# Altium schematic symbol library Weerstation.SCHLIB: 24 symbols
Pins are listed as number, name and electrical type; pins without a type are passive.

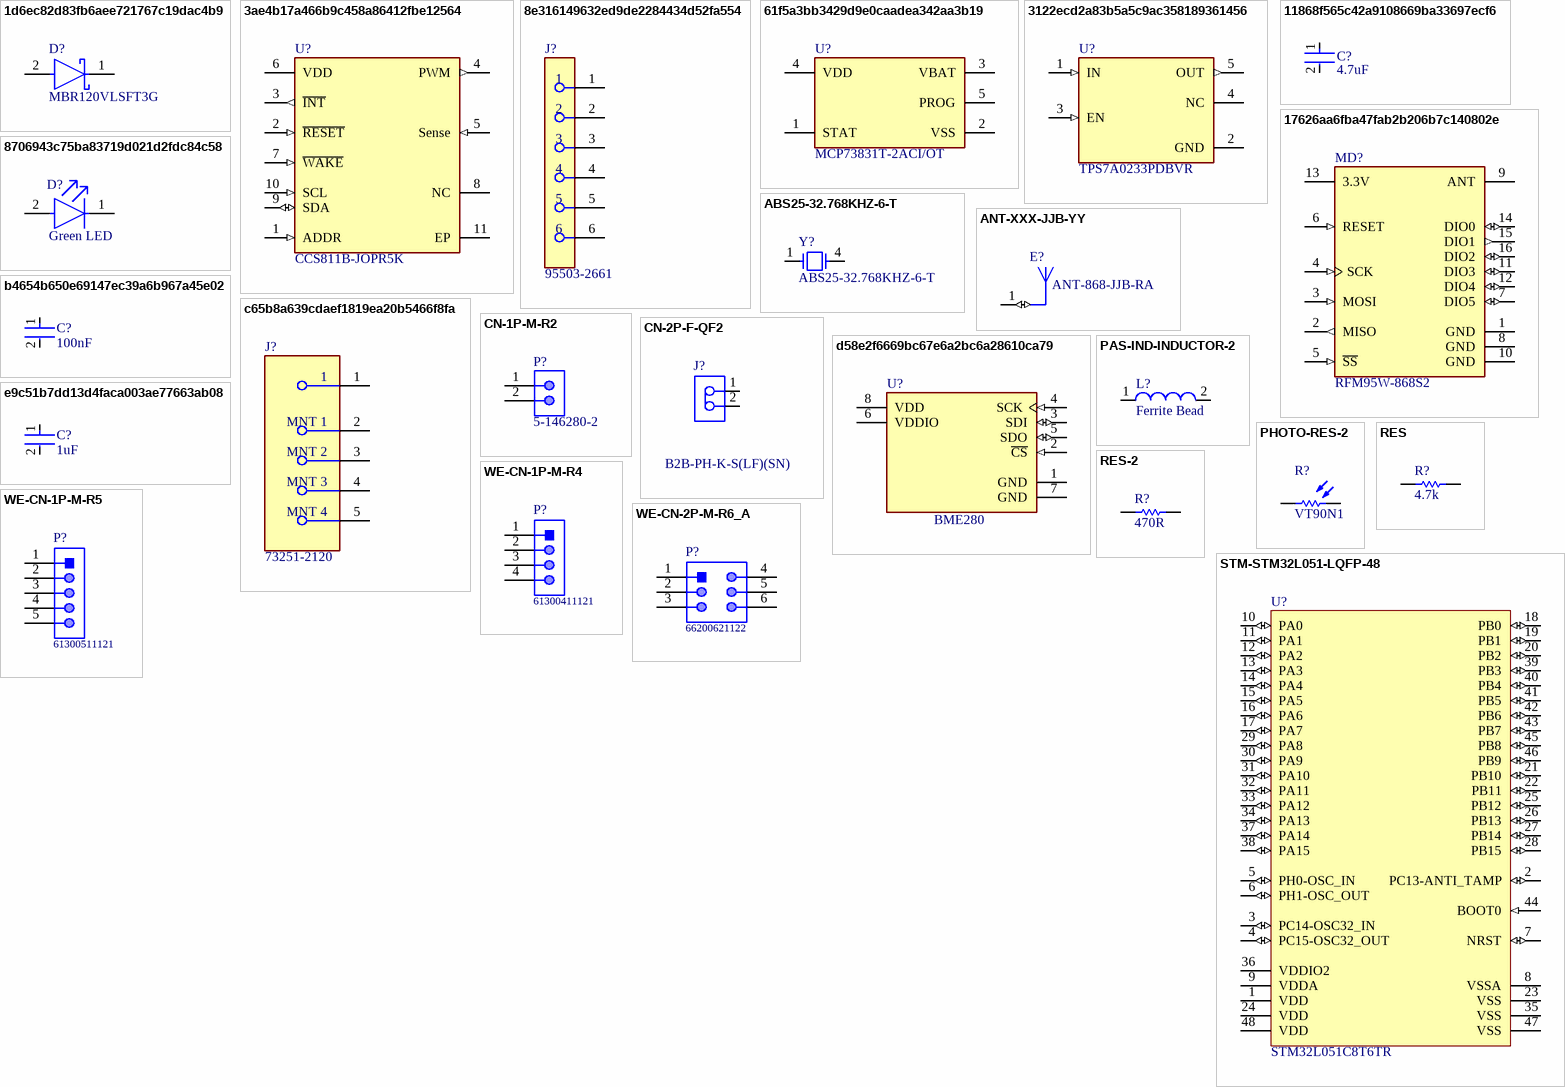
[diagram p0: symbols 1d6ec82d83fb6aee721767c19dac4b9 to WE-CN-2P-M-R6_A]

## 1d6ec82d83fb6aee721767c19dac4b9
designator D?, comment MBR120VLSFT3G
DIODE SCHOTTKY 20V 1A SOD123FL; Peak Reverse Current: 600uA; Peak Non-Repetitive Surge Current: 45A; Forward Voltage: 340mV; Polarity: Standard; Element Configuration: Single; Max Repetitive Reverse Voltage (Vrrm): 20V; Max Operating Temperature: 125°C; Forward Current: 1A; Average Rectified Current: 1A; Package Quantity: 10000; Current Rating: 1A; Max Reverse Leakage Current: 600uA; Max Surge Current: 45A; Radiation Hardening: No; Min Operating Temperature: -65°C; Max Reverse Voltage (DC): 20V; Number of Pins: 2; Output Current: 1A; Halogen Free: Halogen Free; Packaging: Tape and Reel; Max Forward Surge Current (Ifsm): 45A; REACH SVHC: No SVHC; Voltage Rating (DC): 20V; Lead Free: Lead Free
footprint FP-498-MFG
pins: 1 C, 2 A

## 3ae4b17a466b9c458a86412fbe12564
designator U?, comment CCS811B-JOPR5K
CCS811B-JOPR5K LGA10 LF T&R; Operating Supply Current: 26mA; Min Operating Temperature: -5°C; Max Operating Temperature: 50°C
footprint FP-CCS811B-JOPR5K-MFG
pins: 1 ADDR (in), 2 ~{RESET} (in), 3 ~{INT} (out), 4 PWM (out), 5 Sense (in), 6 VDD (power), 7 ~{WAKE} (in), 8 NC, 9 SDA (io), 10 SCL (in), 11 EP (power)

## 8e316149632ed9de2284434d52fa554
designator J?, comment 95503-2661
CONN MOD JACK 6P6C VERT UNSHLD; Pitch: 2.54mm; Number of Positions Loaded: 6; Voltage Rating (DC): 125V; Gender: Female; Number of Ports: 1; Shielding: Unshielded; Current Rating: 1.5A; Housing Color: Black; Series: 95503; Color: Black; Packaging: Tray; Contact Material: Copper Alloy; Number of Positions: 6; Mount: Through Hole; Width: 13.21mm; Contact Plating: Gold; Halogen Free: Low Halogen; Number of Contacts: 6; Depth: 15.08mm; Length: 13.21mm; Voltage Rating: 125V; Number of Ways: 6; Max Voltage Rating (DC): 125V; Package Quantity: 3094; Orientation: Straight; Max Operating Temperature: 80°C; Termination: Through Hole; Housing Material: Thermoplastic; Min Operating Temperature: -40°C
footprint FP-95503-2661-MFG
pins: 1, 2, 3, 4, 5, 6

## 61f5a3bb3429d9e0caadea342aa3b19
designator U?, comment MCP73831T-2ACI/OT
IC CONTROLLR LI-ION 4.2V SOT23-5; Max Power Dissipation: 1.54W; Output Current: 500mA; Max Output Voltage: 4.5V; Number of Outputs: 1; Min Output Voltage: 4.168V; Min Supply Voltage: 3.75V; Max Input Voltage: 6V; Voltage Rating: 4.534V; Drain to Source Resistance: 350mR; Max Operating Temperature: 85°C; Length: 0.122inch; Number of Pins: 5; REACH SVHC: No SVHC; Radiation Hardening: No; Min Operating Temperature: -40°C; Weight: 0.00709oz; Contact Plating: Tin; Termination: SMD/SMT; Case/Package: SOT-23; Mount: Surface Mount; Width: 0.071inch; Packaging: Tape and Reel; Number of Cells: 1; Max Charge Current: 500mA; Height: 0.051inch; Number of Channels: 1; Output Voltage: 4.2V; Max Supply Voltage: 6V; Lead Free: Lead Free
footprint FP-C04-091-OT-IPC_B
footprint FP-C04-091-OT-IPC_C
footprint FP-C04-091-OT-IPC_A
footprint FP-C04-091-OT-MFG
pins: 1 STAT, 2 VSS (power), 3 VBAT (power), 4 VDD (power), 5 PROG

## 3122ecd2a83b5a5c9ac358189361456
designator U?, comment TPS7A0233PDBVR
IC REG LINEAR 3.3V 200MA SOT23-5; RoHS Compliant: Yes
footprint FP-DBV0005A-IPC_B
footprint FP-DBV0005A-MFG
footprint FP-DBV0005A-IPC_C
footprint FP-DBV0005A-IPC_A
pins: 1 IN (in), 2 GND (power), 3 EN (in), 4 NC, 5 OUT (out)

## 11868f565c42a9108669ba33697ecf6
designator C?, comment 4.7uF
CAP CER 4.7UF 6.3V X5R 0603; Manufacturer: Kemet; Manufacturer Part Number: C0603C475K9PACTU; Temperature Coefficient: 15%; Tolerance: 10%; Material: Ceramic; Device Class L3: Ceramic Capacitors; RoHS: TRUE; Value: 4.7uF; Lead Free: Yes; ComponentLink2Description: Datasheet; Mouser Description: Multilayer Ceramic Capacitors MLCC - SMD/SMT 6.3volts 4.7uF X5R 10%; Package: C0603-CG; Digikey Description: CAP CER 4.7UF 6.3V X5R 0603; ComponentLink2URL: https://content.kemet.com/datasheets/KEM_C1006_X5R_SMD.pdf; Category: Cap; Temperature Range Low: -55°C; Capacitance: 4.7uF; Temperature: -55°C to +85°C; Octopart: https://octopart.com/c0603c475k9pactu-kemet-104242; Ipc Land Pattern Name: CAPC16080X80; Voltage Rating: 6.3V; Temperature Range High: +85°C; Height: 0.9mm; Temperature Characteristic: X5R; Device Class L1: Passive Components; Automotive: No; Device Class L2: Capacitors
footprint FP-C0603-CG-MFG
footprint FP-C0603-CG-IPC_C
footprint FP-C0603-CG-IPC_B
footprint FP-C0603-CG-IPC_A
pins: 1, 2

## 17626aa6fba47fab2b206b7c140802e
designator MD?, comment RFM95W-868S2
RX TXRX MODULE ISM < 1GHZ SMD; Data Rate: 300Kbps; Frequency: 868MHz; Sensitivity: -123dBm; Interface: SPI; Current - Transmitting: 120mA; Current - Receiving: 12.1mA; Max Operating Temperature: 70°C; Case/Package: SMD/SMT; Packaging: Bulk; Mount: Surface Mount; Min Operating Temperature: -20°C
footprint FP-RFM95W-868S2-MFG
pins: 1 GND (power), 2 MISO (out), 3 MOSI (in), 4 SCK (in), 5 ~{SS} (in), 6 RESET (in), 7 DIO5 (io), 8 GND (power), 9 ANT, 10 GND (power), 11 DIO3 (io), 12 DIO4 (io), 13 3.3V (power), 14 DIO0 (io), 15 DIO1 (out), 16 DIO2 (io)

## 8706943c75ba83719d021d2fdc84c58
designator D?, comment Green LED
LED GREEN CLEAR CHIP SMD; Dominant Wavelength: 569nm; Reverse Voltage: 5V; Lens Color: Colorless; Viewing Angle: 130°; Voltage: 2V; Forward Current: 30mA; Power Dissipation: 100mW; Luminous Intensity: 6mcd; Number of LEDs: 1; Forward Voltage: 2.1V; Wavelength: 565nm; Test Current: 10mA; Min Operating Temperature: -55°C; Lens Style: Clear; Mount: Surface Mount; Width: 0.8mm; Packaging: Tape and Reel; Lens Transparency: Clear; Case Code (Metric): 1608; Depth: 0.8mm; Case Code (Imperial): 0603; Case/Package: 0603; Number of Pins: 2; Max Operating Temperature: 85°C; Lead Free: Lead Free; Number of Elements: 1; Length: 1.6mm; Height: 0.8mm; Package Quantity: 1; Power Rating: 100mW; Radiation Hardening: No; Illumination Color: Green; Color: Green
footprint FP-LTST-C190GKT-MFG
pins: 1 C, 2 A

## ABS25-32.768KHZ-6-T
designator Y?
32.768kHz Â±20ppm Crystal 6pF 50 kOhms 4-SOJ, 5.50mm pitch; MF: Abracon; Price: None; SnapEDA_Link: https://www.snapeda.com/parts/ABS25-32.768KHZ-6-T/Abracon%20LLC/view-part/313683/?ref=snap; MP: ABS25-32.768KHZ-6-T; Availability: Unavailable; Value: *; Package: 4-4 Abracon
footprint XTAL_ABS25-32.768KHZ-6-T
pins: 1, 4

## ANT-XXX-JJB-YY
designator E?, comment ANT-868-JJB-RA
Embeddable 1/4-wave Monopole Antenna, JJB Series, 868MHz, 7mm Dia. Package, Right-Angle; Note1: No ground planes or traces under the antenna; DatasheetVersion: Jul-2008; PackageReference: ANT-XXX-JJB-RA; PackageDescription: Antenna, Monopole, JJB Series, Thru-Hole, Right-Angle, 7.0 x 9.0 mm (Dia.xH typ); PackageVersion: Jul-2008
footprint ANT-XXX-JJB-RA (Antenna, 1-Lead, Thru-Hole, Right-Angle, Body 7.0x9.0mm (Dia.xH typ))
pins: 1 FEED (io)

## b4654b650e69147ec39a6b967a45e02
designator C?, comment 100nF
Cap Ceramic 100nF 50V X7R 10% Pad SMD 0603 +125°C Automotive T/R; Weight: 7.1E-05oz; Composition: Ceramic; Max Operating Temperature: 125°C; Termination: SMD/SMT; Dielectric: X7R; Length: 1.6mm; Package Quantity: 1; REACH SVHC: No SVHC; Lead Free: Lead Free; Case Code (Metric): 1608; Min Operating Temperature: -55°C; Packaging: Tape and Reel; Tolerance: 10%; Voltage Rating: 50V; Case Code (Imperial): 0603; Capacitance: 100nF; Case/Package: 0603; Voltage Rating (DC): 50V; Depth: 0.8mm; Radiation Hardening: No; Ratings: AEC-Q200; Mount: Surface Mount; Voltage: 50V; Thickness: 0.035inch; Width: 0.8mm; Height: 0.8mm
footprint FP-CGA3E-0_3-0_1-IPC_A
footprint FP-CGA3E-0_3-0_1-IPC_C
footprint FP-CGA3E-0_3-0_1-IPC_B
footprint FP-CGA3E-0_3-0_1-MFG
pins: 1, 2

## c65b8a639cdaef1819ea20b5466f8fa
designator J?, comment 73251-2120
CONN SMA JACK STR 50OHM EDGE MNT; Gender: Female; Plating: Gold; Impedance: 50R; Body Material: Brass; Polarity: Standard; Mount: Edge; Contact Plating: Gold; Orientation: Straight; Lead Free: Lead Free; Contact Material: Copper; Termination: Solder; RoHS Compliant: Yes; Body Plating: Gold; Operating Frequency: N/A; Connector Type: SMA; Case/Package: SMA; Series: 73251; Halogen Free: Low Halogen; Radiation Hardening: No; Packaging: Bulk; Package Quantity: 1600
footprint FP-73251-2120-MFG
pins: 1, 2 MNT 1, 3 MNT 2, 4 MNT 3, 5 MNT 4

## CN-1P-M-R2
designator P?, comment 5-146280-2
Male Header, Pitch 2.54 mm, 1 x 2 Position, Height 8.21 mm, Tail Length 3.05 mm, -65 to 105 degC, RoHS, Bulk; Manufacturer: TE Connectivity; Mating Connector Lock: No(Without); Number of Positions: 2; Pitch: 2.54mm; PCB Mounting Orientation: Vertical; Keyed: No; Case\/Package: 100; Mating Post Length: 0.23inch; High Temperature Housing: Yes; Max Current Rating: 5A; PCB Thickness: 0.063inch; PCB Mount Retention: Without; Approvals: CSA; Current Rating: 3A; Radiation Hardening: No; Length: 4.67mm; Contact Mating Length: 0.23inch; Connector Type: Header; Number of Rows: 1; Termination Post Length: 0.12inch; Board Standoff: No(Without); Max Operating Temperature: 105degC; Contact Shape: Square; Selectively Loaded: No(Without); Gasket: No(Without); Number of Contacts: 2; Contact Gender: Male; Mating Alignment: No(Without); Manufacturer URL: http://www.te.com/; Datasheet URL: http://www.te.com/commerce/DocumentDelivery/DDEController?Action=showdoc&DocId=Customer+Drawing%7F146280%7FH1%7Fpdf%7FEnglish%7FENG_CD_146280_H1.pdf%7F5-146280-2; Mount: ThroughHole; Orientation: Straight; Packaging: Carton; Package Reference: 5-146280-2; Package Quantity: 500; Stabilizers: No(Without); Row Spacing: 2.54mm; Contact Material: CopperAlloy; Panel Mount Retention: No(Without); Datasheet Version: Rev. H1, 08/2016; Housing Colour: Black; Colour: Black; Package Description: Male Header, Pitch 2.54 mm, 1 x 2 Position, Height 8.21 mm, Tail Length 3.05 mm; Contact Plating: Matte; Housing Material: Polymer; Contact Protection: No(Without); Min Operating Temperature: -65degC; Mounting Technology: ThroughHole; Flammability Rating: UL94V-0; RoHSCompliant: true; Termination: ThroughHole; Depth: 2.34mm; High Speed Serial Data Connector: No
footprint TECO-5-146280-2_V (Connector, 2-Leads, Body 4.67x2.34mm, Pitch 2.54mm)
pins: 1, 2

## CN-2P-F-QF2
designator J?, comment B2B-PH-K-S(LF)(SN)
Male Header, Pitch 2 mm, 1 x 2 Position, Height 6 mm, Tail Length 3.4 mm, -25 to 85 degC, RoHS, Bulk; Manufacturer: JST; Pitch: 2mm; Style/Orientation: StraightHeader/Plug; No of Positions: 2; Datasheet Version: Nov-08; Datasheet URL: http://datasheet.octopart.com/B2B-PH-K-S%28LF%29%28SN%29-JST-datasheet-8324864.pdf; Manufacturer URL: http://www.jst.com/home2.html; Type: ShroudedHeader; Termination: Crimp
footprint JST-B2B-PH-K-S_V (Connector, 2-Leads, Body 5.9x4.5mm, Pitch 2mm)
pins: 1, 2

## d58e2f6669bc67e6a2bc6a28610ca79
designator U?, comment BME280
SENSOR PRESSURE HUMIDITY TEMP; Sensor Type: Temperature; Accuracy: 3%; Response Time: 1s; Output Type: SPI; Min Operating Temperature: -40°C; Max Operating Temperature: 85°C; Case/Package: LGA; Packaging: Cut Tape; Mount: Surface Mount; Lead Free: Lead Free; Number of Pins: 8
footprint FP-BME280-MFG
pins: 1 GND (power), 2 ~{CS} (in), 3 SDI (io), 4 SCK (in), 5 SDO (io), 6 VDDIO (power), 7 GND (power), 8 VDD (power)

## e9c51b7dd13d4faca003ae77663ab08
designator C?, comment 1uF
CAP CER 1UF 25V X5R 0603; Dielectric Material: Ceramic; Tolerance: 10%; Contact Plating: Tin; Number of Pins: 2; Lead Free: Lead Free; Depth: 0.8mm; Length: 1.6mm; Mount: Surface Mount; Case Code (Metric): 1608; Max Operating Temperature: 85°C; Voltage: 25V; Voltage Rating (DC): 25V; REACH SVHC: No SVHC; Height: 0.8mm; Series: C0603C; Case/Package: 0603; Case Code (Imperial): 0603; Capacitance: 1uF; RoHS Compliant: Yes; Dielectric: X5R; Packaging: Tape and Reel; Construction: Flat; Thickness: 0.034inch; Voltage Rating: 25V; Radiation Hardening: No; Width: 0.031inch; Min Operating Temperature: -55°C; Termination: SMD/SMT; Package Quantity: 4000
footprint FP-C0603C105K3PACTU-MFG
footprint FP-C0603C105K3PACTU-IPC_C
footprint FP-C0603C105K3PACTU-IPC_B
footprint FP-C0603C105K3PACTU-IPC_A
pins: 1, 2

## PAS-IND-INDUCTOR-2
designator L?, comment Ferrite Bead
SMD EMI Suppression Ferrite Bead WE-CBF, Z = 30 Ohm; Impedance: 30 Ohm; PackageReference: SMD-0603; ComponentLink2Description: Datasheet; ComponentLink1URL: http://www.we-online.com; PackageDescription: Chip Inductor, 2-Leads, Body 1.6 x 0.8 mm; ComponentLink1Description: Manufacturer Link; PackageVersion: 2009; ComponentLink2URL: http://www.we-online.de/katalog/media/pdf/742792601.pdf; DatasheetVersion: Dec-2005
footprint SMD-0603 (Chip Inductor, 2-Leads, Body 1.6x0.8x0.95 mm)
pins: 1, 2

## PHOTO-RES-2
designator R?, comment VT90N1
Photoconductive Resistor, 200 kOhm, 100 V, 80 mW, -40 to 75 degC, 2-Pin THD, RoHS; Manufacturer: Excelitas Technology; SVHC: Cadmiumchloride(15-Jun-2015); Power Rating: 80mW; Resistance @ Lux: 12kohm; Voltage Rating: 100V; Product Range: -; Datasheet Version: 09/2006; Resistor Case Style: -; Operating Temperature Max: 75°C; Package Reference: VT90N1; Datasheet URL: http://datasheet.octopart.com/VT90N1-Excelitas-datasheet-10388451.pdf; Mounting Technology: ThroughHole; Operating Temperature Min: -40°C; Dark Resistance: 200kohm; Package Description: 2-Pin Through Hole Device, Body Width 4.17 mm (Max), Height 2.29 mm; Manufacturer URL: http://www.excelitas.com/Pages/Index.aspx; Packaging: Each
footprint EXCE-VT90N1 (THD, 2-Leads, Body Width 4.17mm (Max), Height 2.29mm)
pins: 1, 2

## RES
designator R?, comment 4.7k
Part Number: ERJ-3EKF1003V; Manufacturer: Panasonic
footprint RESC1608X55X30ML15T15 (Chip Resistor, 2-Leads, Body 1.60x0.80mm, IPC Low Density)
footprint RESC1608X55X30NL15T15 (Chip Resistor, 2-Leads, Body 1.60x0.80mm, IPC Medium Density)
footprint RESC1608X55X30LL15T15 (Chip Resistor, 2-Leads, Body 1.60x0.80mm, IPC High Density)
pins: 1, 2
1 alternate drawing of the same symbol

## RES-2
designator R?, comment 470R
Chip Resistor, 470 Ohm, +/- 1%, 0.1 W, -55 to 155 degC, 0603 (1608 Metric), RoHS, Tape and Reel; Manufacturer: Panasonic; Voltage Rating: 75 V; Height: 0.45 mm; ComponentLink1Description: Manufacturer URL; Packaging: Tape and Reel; Max Operating Temperature: 155 degC; ComponentLink3Description: Package Specification; ComponentLink3URL: https://datasheet.ciiva.com/11808/0900766b80f806dd-11808207.pdf; ComponentLink2Description: Datasheet; RoHSCompliant: true; ComponentLink1URL: http://www.panasonic.com/; Min Operating Temperature: -55 degC; PackageReference: 0603; DatasheetVersion: 04/2015; REACH SVHC: Yes; Length: 1.6 mm; Mount: Surface Mount; Mounting Technology: Surface Mount; Pins: 2; ComponentLink2URL: http://industrial.panasonic.com/cdbs/www-data/pdf/RDA0000/AOA0000C86.pdf; PackageDescription: 2-Pin Surface Mount Device, Body 1.6 x 0.85 mm; Package Quantity: 1
footprint RESC1608X55X30ML15T15 (Chip Resistor, 2-Leads, Body 1.75x0.95mm, IPC Low Density)
footprint RESC1608X55X30NL15T15 (Chip Resistor, 2-Leads, Body 1.75x0.95mm, IPC Medium Density)
footprint RESC1608X55X30LL15T15 (Chip Resistor, 2-Leads, Body 1.75x0.95mm, IPC High Density)
pins: 1, 2

## STM-STM32L051-LQFP-48
designator U?, comment STM32L051C8T6TR
Ultra-Low-Power ARM Cortex-M0+ MCU, 64 KB Flash, 1.8 to 3.6 V, -40 to 85 degC, 48-Pin LQFP, RoHS, Tape and Reel; Flash: 64 KB; VDD Min: 1.8 V; RAM: 8 KB; Data EEPROM: 2 KB; VDD Max: 3.6 V; Temperature Max: 85 degC; PartNumber: STM32L051C8T6TR; ComponentLink1URL: http://www.st.com/web/en/home.html; ComponentLink1Description: Manufacturer URL; PackageDescription: 48-Pin Frame Chip Scale Package, Body 7 x 7 mm, Pitch 0.5 mm; ComponentLink3URL: http://www.st.com/st-web-ui/static/active/en/resource/technical/document/datasheet/DM00058181.pdf; Packing: Tape and Reel; Mounting Technology: Surface Mount; ComponentLink3Description: Package Specification; RoHS: TRUE; ComponentLink2Description: Datasheet; Temperature Min: -40 degC; DatasheetVersion: Rev. 4; ComponentLink2URL: http://www.st.com/st-web-ui/static/active/en/resource/technical/document/datasheet/DM00108219.pdf
footprint STM-LQFP48_N (QFP, 48-Leads, Body 7x7mm, Pitch 0.5mm, IPC Medium Density)
footprint STM-LQFP48_M (QFP, 48-Leads, Body 7x7mm, Pitch 0.5mm, IPC Low Density)
footprint STM-LQFP48_L (QFP, 48-Leads, Body 7x7mm, Pitch 0.5mm, IPC High Density)
pins: 1 VDD (power), 2 PC13-ANTI_TAMP (io), 3 PC14-OSC32_IN (io), 4 PC15-OSC32_OUT (io), 5 PH0-OSC_IN (io), 6 PH1-OSC_OUT (io), 7 NRST (io), 8 VSSA (power), 9 VDDA (power), 10 PA0 (io), 11 PA1 (io), 12 PA2 (io), 13 PA3 (io), 14 PA4 (io), 15 PA5 (io), 16 PA6 (io), 17 PA7 (io), 18 PB0 (io), 19 PB1 (io), 20 PB2 (io), 21 PB10 (io), 22 PB11 (io), 23 VSS (power), 24 VDD (power), 25 PB12 (io), 26 PB13 (io), 27 PB14 (io), 28 PB15 (io), 29 PA8 (io), 30 PA9 (io), 31 PA10 (io), 32 PA11 (io), 33 PA12 (io), 34 PA13 (io), 35 VSS (power), 36 VDDIO2 (power), 37 PA14 (io), 38 PA15 (io), 39 PB3 (io), 40 PB4 (io), 41 PB5 (io), 42 PB6 (io), 43 PB7 (io), 44 BOOT0 (in), 45 PB8 (io), 46 PB9 (io), 47 VSS (power), 48 VDD (power)

## WE-CN-1P-M-R4
designator P?, comment 61300411121
THT Vertical Pin Header WR-PHD, Pitch 2.54 mm, Single Row, 4 pins; Manufacturer: Wurth Elektronik; Withstanding Voltage: 500VAC; Rated Current: 3A; Working Voltage: 250VAC; Pin Number: 4; Gender: Male; Contact Resistance: 20mOhm; Pitch: 2.54mm; Manufacturer URL: http://www.we-online.de; Operating Temperature: -40to105degC; Packaging: Bag; Mounting Technology: THT; Package Reference: 61300411121; Datasheet URL: https://katalog.we-online.de/em/datasheet/6130xx11121.pdf; Publisher: WurthElektronik; Part Number: 61300411121; Row Number: Single; Orientation: Vertical
footprint 61300411121 (Pin Header, pitch 2.54 mm, THT, Vertical, single row, 4p)
pins: 1, 2, 3, 4

## WE-CN-1P-M-R5
designator P?, comment 61300511121
THT Vertical Pin Header WR-PHD, Pitch 2.54 mm, Single Row, 5 pins; Manufacturer: Wurth Elektronik; Pin Number: 5; Contact Resistance: 20mOhm; Working Voltage: 250VAC; Pitch: 2.54mm; Withstanding Voltage: 500VAC; Rated Current: 3A; Gender: Male; Datasheet URL: https://katalog.we-online.de/em/datasheet/6130xx11121.pdf; Orientation: Vertical; Mounting Technology: THT; Row Number: Single; Package Reference: 61300511121; Publisher: WurthElektronik; Part Number: 61300511121; Packaging: Bag; Manufacturer URL: http://www.we-online.de; Operating Temperature: -40to105degC
footprint 61300511121 (Pin Header, pitch 2.54 mm, THT, Vertical, single row, 5p)
pins: 1, 2, 3, 4, 5

## WE-CN-2P-M-R6_A
designator P?, comment 66200621122
THT Male Header WR-MPC3, Vertical, Dual Row, pitch 3 mm, 6 pins; Manufacturer: Wurth Elektronik; Pitch: 3mm; Pin Number: 6; Working Voltage: 250VAC; Contact Resistance: 10mOhm; Datasheet URL: https://katalog.we-online.de/em/datasheet/6620xx21122.pdf; Orientation: Vertical; Part Number: 66200621122; Packaging: Tube; Publisher: WurthElektronik; Package Reference: 66200621122; Operating Temperature: -40to105degC; Gender: Male; Manufacturer URL: http://www.we-online.de; Mounting Technology: THT
footprint 66200621122 (Dual row Vertical header 06p)
pins: 1, 2, 3, 4, 5, 6